# Altium schematic symbol library Connector.SchLib: 28 symbols
Pins are listed as number, name and electrical type; pins without a type are passive.

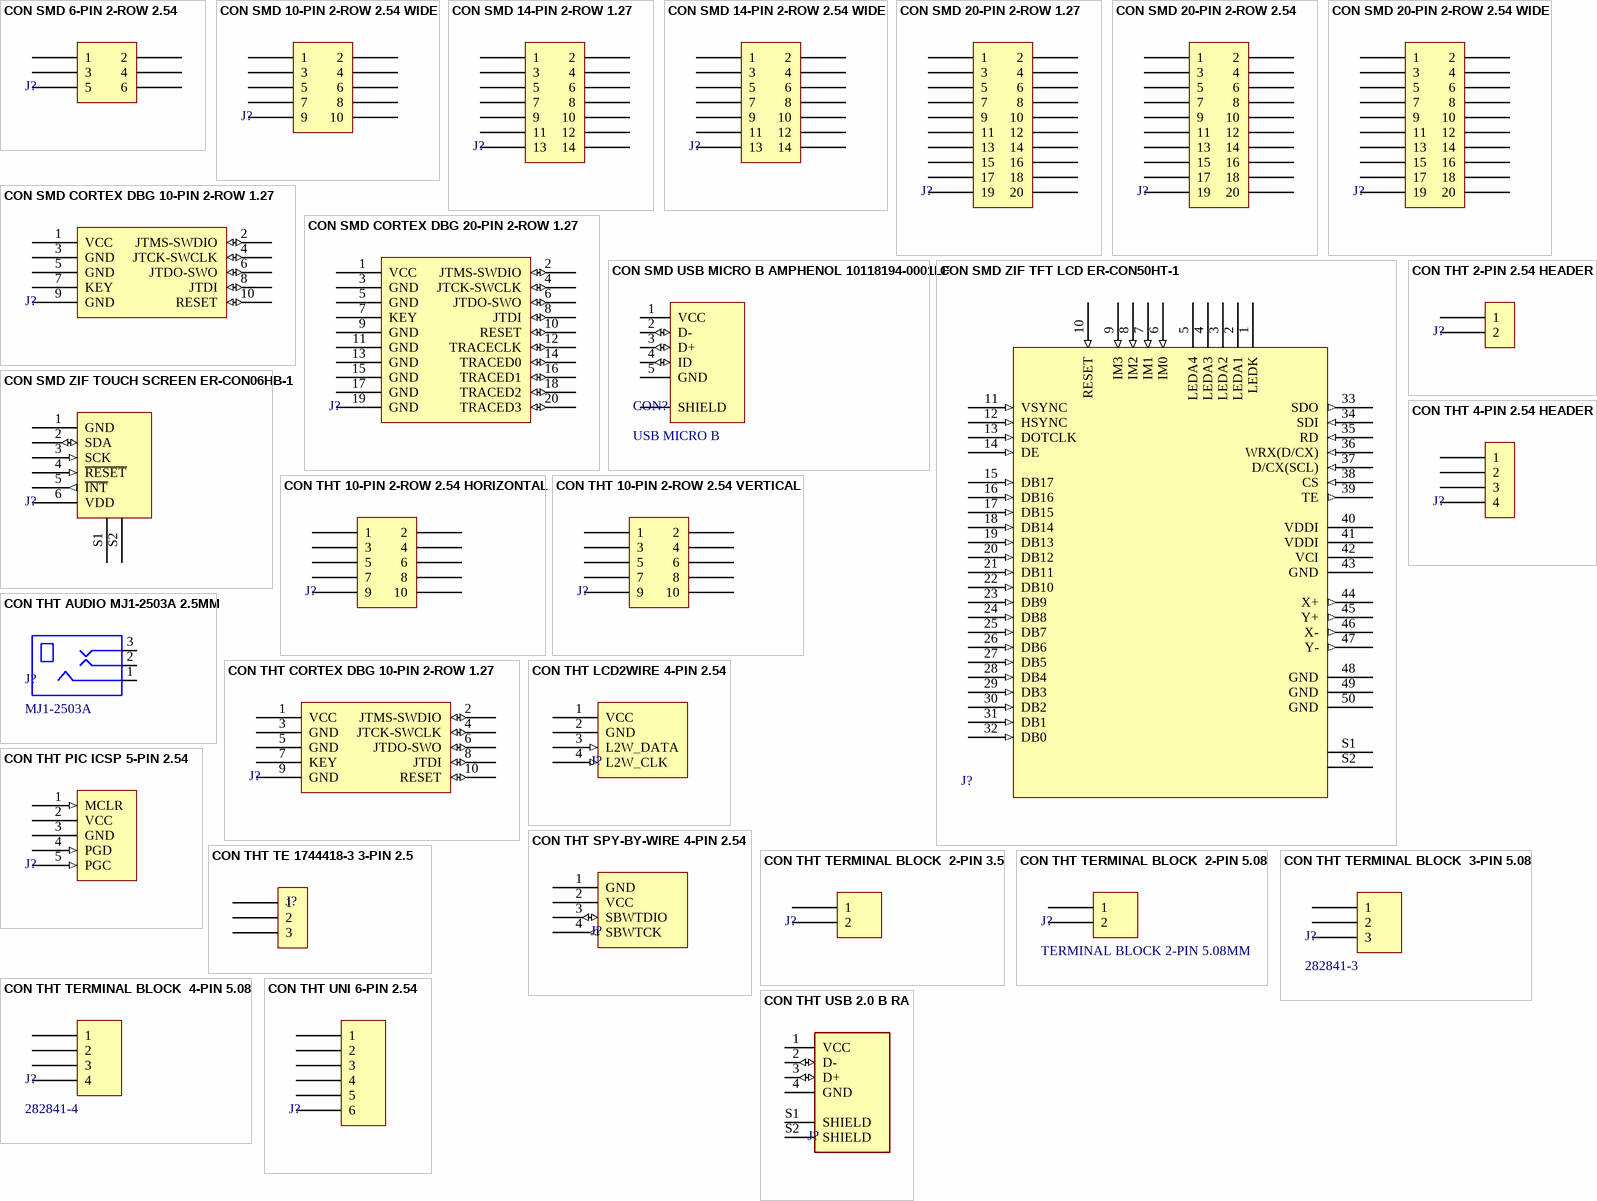
[diagram p0: symbols CON SMD 6-PIN 2-ROW 2.54 to CON THT USB 2.0 B RA]

## CON SMD 6-PIN 2-ROW 2.54
designator J?
footprint SMD HEADER 2x3 2.54
pins: 1, 2, 3, 4, 5, 6

## CON SMD 10-PIN 2-ROW 2.54 WIDE
designator J?
HTST-105-01-SM-DV-P
footprint SMD HEADER 2x5 2.54 WIDE
pins: 1, 2, 3, 4, 5, 6, 7, 8, 9, 10

## CON SMD 14-PIN 2-ROW 1.27
designator J?
M50-3600742
footprint SMD HEADER 2x7 1.27
pins: 1, 2, 3, 4, 5, 6, 7, 8, 9, 10, 11, 12, 13, 14

## CON SMD 14-PIN 2-ROW 2.54 WIDE
designator J?
HTST-107-01-SM-DV-P
footprint SMD HEADER 2x7 2.54 WIDE
pins: 1, 2, 3, 4, 5, 6, 7, 8, 9, 10, 11, 12, 13, 14

## CON SMD 20-PIN 2-ROW 1.27
designator J?
M50-3611042
footprint SMD HEADER 2x10 1.27
pins: 1, 2, 3, 4, 5, 6, 7, 8, 9, 10, 11, 12, 13, 14, 15, 16, 17, 18, 19, 20

## CON SMD 20-PIN 2-ROW 2.54
designator J?
HTSS-110-01-L-DV
footprint SMD HEADER 2x10 2.54
pins: 1, 2, 3, 4, 5, 6, 7, 8, 9, 10, 11, 12, 13, 14, 15, 16, 17, 18, 19, 20

## CON SMD 20-PIN 2-ROW 2.54 WIDE
designator J?
HTST-110-01-SM-DV-P
footprint SMD HEADER 2x10 2.54 WIDE
pins: 1, 2, 3, 4, 5, 6, 7, 8, 9, 10, 11, 12, 13, 14, 15, 16, 17, 18, 19, 20

## CON SMD CORTEX DBG 10-PIN 2-ROW 1.27
designator J?
M50-3600542R
footprint SMD HEADER 2x5 1.27
pins: 1 VCC (power), 2 JTMS-SWDIO (io), 3 GND (power), 4 JTCK-SWCLK (io), 5 GND (power), 6 JTDO-SWO (io), 7 KEY, 8 JTDI (io), 9 GND (power), 10 RESET (io)

## CON SMD CORTEX DBG 20-PIN 2-ROW 1.27
designator J?
M50-3611042
footprint SMD HEADER 2x10 1.27
pins: 1 VCC (power), 2 JTMS-SWDIO (io), 3 GND (power), 4 JTCK-SWCLK (io), 5 GND (power), 6 JTDO-SWO (io), 7 KEY, 8 JTDI (io), 9 GND (power), 10 RESET (io), 11 GND (power), 12 TRACECLK (io), 13 GND (power), 14 TRACED0 (io), 15 GND (power), 16 TRACED1 (io), 17 GND (power), 18 TRACED2 (io), 19 GND (power), 20 TRACED3 (io)

## CON SMD USB MICRO B AMPHENOL 10118194-0001LF
designator CON?, comment USB MICRO B
footprint SMD CON USB MICRO B AMPEHOL 10118194-0001LF
pins: 1 VCC (power), 2 D- (io), 3 D+ (io), 4 ID (io), 5 GND (power), S SHIELD

## CON SMD ZIF TFT LCD ER-CON50HT-1
designator J?
footprint SMD CON ZIF ER-CON50HT-1
pins: 1 LEDK (power) "Cathode for LED backlight", 2 LEDA1 (power) "Anode No.1 for LED backlight", 3 LEDA2 (power) "Anode No.2 for LED backlight", 4 LEDA3 (power) "Anode No.3 for LED backlight", 5 LEDA4 (power) "Anode No.4 for LED backlight", 6 IM0 (in) "Select Interface Mode", 7 IM1 (in) "Select Interface Mode", 8 IM2 (in) "Select Interface Mode", 9 IM3 (in) "Select Interface Mode", 10 RESET (in) "Reset Pin", 11 VSYNC (in) "Frame Synchronizing Signal For RGB Interface", 12 HSYNC (in) "Line Synchronizing Signal For RGB Interface", 13 DOTCLK (in) "Data Clock Signal For RGB Interface", 14 DE (in) "Data Enable Signal For RGB Interface", 15 DB17 (in) "DATA BUS", 16 DB16 (in) "DATA BUS", 17 DB15 (in) "DATA BUS", 18 DB14 (in) "DATA BUS", 19 DB13 (in) "DATA BUS", 20 DB12 (in) "DATA BUS", 21 DB11 (in) "DATA BUS", 22 DB10 (in) "DATA BUS", 23 DB9 (in) "DATA BUS", 24 DB8 (in) "DATA BUS", 25 DB7 (in) "DATA BUS", 26 DB6 (in) "DATA BUS", 27 DB5 (in) "DATA BUS", 28 DB4 (in) "DATA BUS", 29 DB3 (in) "DATA BUS", 30 DB2 (in) "DATA BUS", 31 DB1 (in) "DATA BUS", 32 DB0 (in) "DATA BUS", 33 SDO (out) "Serial Output Signal", 34 SDI (in) "Serial Input Signal", 35 RD (in) "Read Execution Control Pin", 36 WRX(D/CX) (in) "Write Execution Control Pin; Serial Register Select Signal", 37 D/CX(SCL) (in) "Register Select Signal; Serial Interface Clock", 38 CS (in) "Chip Select Signal", 39 TE (out) "Tearing Effect Out Pin Synchronize MPU To Frame Writing", 40 VDDI (power) "Power Supply to the interface pins, provide with 2.8V", 41 VDDI (power) "Power Supply to the interface pins, provide with 2.8V", 42 VCI (power) "Logic power, provide with 2.8V", 43 GND (power) "Ground", 44 X+ (out) "Touch panel output", 45 Y+ (out) "Touch panel output", 46 X- (out) "Touch panel output", 47 Y- (out) "Touch panel output", 48 GND (power) "Ground", 49 GND (power) "Ground", 50 GND (power) "Ground", S1 "Shield", S2 "Shield"

## CON SMD ZIF TOUCH SCREEN ER-CON06HB-1
designator J?
footprint SMD CON ZIF ER-CON06HB-1
pins: 1 GND (power), 2 SDA (io), 3 SCK (in), 4 ~{RESET} (in), 5 ~{INT} (out), 6 VDD (power), S1, S2

## CON THT 2-PIN 2.54 HEADER
designator J?
footprint THT CON 2-PIN 2.54
pins: 1, 2

## CON THT 4-PIN 2.54 HEADER
designator J?
footprint THT CON 4-PIN 2.54 WHITE
pins: 1, 2, 3, 4

## CON THT 10-PIN 2-ROW 2.54 HORIZONTAL
designator J?
footprint THT CON 10-PIN 2-ROW 2.54 HORIZONTAL
pins: 1, 2, 3, 4, 5, 6, 7, 8, 9, 10

## CON THT 10-PIN 2-ROW 2.54 VERTICAL
designator J?
footprint THT CON 10-PIN 2-ROW 2.54 VERTICAL
pins: 1, 2, 3, 4, 5, 6, 7, 8, 9, 10

## CON THT AUDIO MJ1-2503A 2.5MM
designator J?, comment MJ1-2503A
footprint THT CON MJ1-2503A
pins: 1, 2, 3

## CON THT CORTEX DBG 10-PIN 2-ROW 1.27
designator J?
footprint THT HEADER 2x5 1.27
pins: 1 VCC (power), 2 JTMS-SWDIO (io), 3 GND (power), 4 JTCK-SWCLK (io), 5 GND (power), 6 JTDO-SWO (io), 7 KEY, 8 JTDI (io), 9 GND (power), 10 RESET (io)

## CON THT LCD2WIRE 4-PIN 2.54
designator J?
footprint THT CON 4-PIN 2.54 WHITE
pins: 1 VCC (power), 2 GND (power), 3 L2W_DATA (in), 4 L2W_CLK (in)

## CON THT PIC ICSP 5-PIN 2.54
designator J?
footprint THT CON 5-PIN 2.54 PINHEAD
pins: 1 MCLR (in), 2 VCC (power), 3 GND (power), 4 PGD (in), 5 PGC (in)

## CON THT SPY-BY-WIRE 4-PIN 2.54
designator J?
footprint THT CON 4-PIN 2.54 WHITE
pins: 1 GND (power), 2 VCC (power), 3 SBWTDIO (io), 4 SBWTCK (out)

## CON THT TE 1744418-3 3-PIN 2.5
designator J?
footprint THT CON TE 1744418-3 2.5
pins: 1, 2, 3

## CON THT TERMINAL BLOCK  2-PIN 3.5
designator J?
footprint THT CON 2-PIN 3.5
pins: 1, 2

## CON THT TERMINAL BLOCK  2-PIN 5.08
designator J?, comment TERMINAL BLOCK 2-PIN 5.08MM
282841-2
footprint THT CON 2-PIN 5.08
pins: 1, 2

## CON THT TERMINAL BLOCK  3-PIN 5.08
designator J?, comment 282841-3
footprint THT CON 3-PIN 5.08
pins: 1, 2, 3

## CON THT TERMINAL BLOCK  4-PIN 5.08
designator J?, comment 282841-4
footprint THT CON 4-PIN 5.08
pins: 1, 2, 3, 4

## CON THT UNI 6-PIN 2.54
designator J?
footprint THT CON UNI 6-PIN 2.54
pins: 1, 2, 3, 4, 5, 6

## CON THT USB 2.0 B RA
designator J?
USB-B (USB TYPE-B) USB 2.0 Receptacle Connector 4 Position Through Hole, Right Angle
footprint THT CON USB 2.0 RA (Footprint not found)
pins: 1 VCC (power), 2 D- (io), 3 D+ (io), 4 GND (power), S1 SHIELD, S2 SHIELD